# Altium footprint library MOD-MP1584EN.PcbLib: 1 footprints
Each footprint in its own frame and in the unit in brackets; x right, y up, seen from the top. Pads: shape width x height; smd on the part's side, far side on the other; paste and mask are expansions set on the pad; w line width, h text height; cw(c..) or ccw(c..) is an arc to the next point about the centre after c.
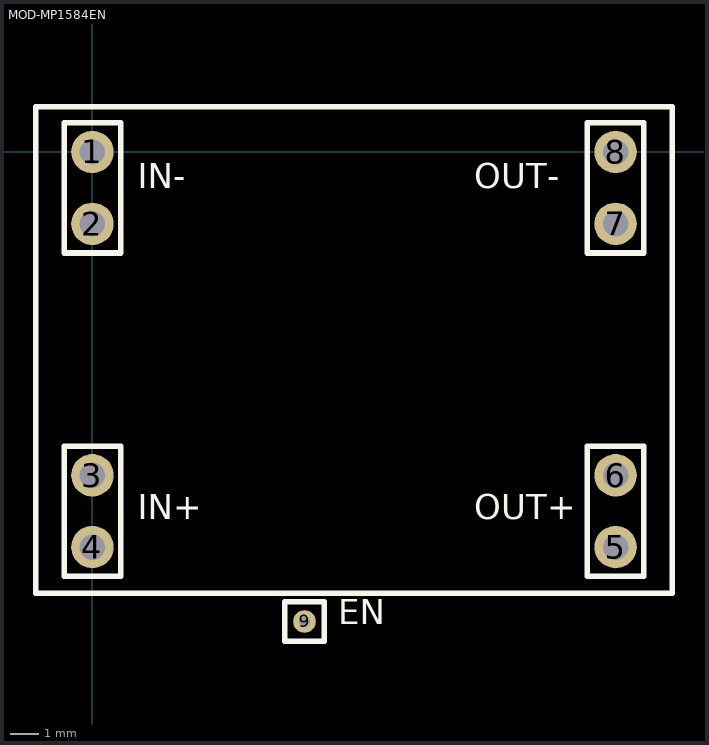
[diagram p0: the footprint, top view; thin cyan lines are the x and y axes]

## MOD-MP1584EN [mm]
pads (9):
  round 1.5 hole 0.9: 1(0,0) 2(0,-2.54) 3(0,-11.43) 4(0,-13.97) 5(18.5,-13.97) 6(18.5,-11.43) 7(18.5,-2.54) 8(18.5,0)
  round 0.8 hole 0.4: 9(7.5,-16.6)
Top Overlay:
  lines w0.2: -2,-15.6 -2,1.6 20.5,1.6 20.5,-15.6 -2,-15.6 ; -1,-15 1,-15 1,-10.4 -1,-10.4 -1,-15 ; -1,-3.57 -1,1.03 1,1.03 1,-3.57 -1,-3.57 ; 6.8,-17.3 8.2,-17.3 8.2,-15.9 6.8,-15.9 6.8,-17.3 ; 17.5,-15 19.5,-15 19.5,-10.4 17.5,-10.4 17.5,-15 ; 17.5,-3.57 19.5,-3.57 19.5,1.03 17.5,1.03 17.5,-3.57
  text "EN" at 8.7,-17 h1.5
  text "IN-" at 1.6,-1.583 h1.5
  text "IN+" at 1.6,-13.283 h1.5
  text "OUT+" at 13.5,-13.283 h1.5
  text "OUT-" at 13.5,-1.583 h1.5
3D body: height 7, standoff 2.5, extent -2,-15.6 20.5,1.6
3D body: height 1.4, standoff -1.4, extent -1.9,1.7 -1.9,1.7